# Altium footprint library PCB - IND - B82793C0513N201.PCBLIB: 1 footprints
Each footprint in its own frame and in the unit in brackets; x right, y up, seen from the top. Pads: shape width x height; smd on the part's side, far side on the other; paste and mask are expansions set on the pad; w line width, h text height; cw(c..) or ccw(c..) is an arc to the next point about the centre after c.
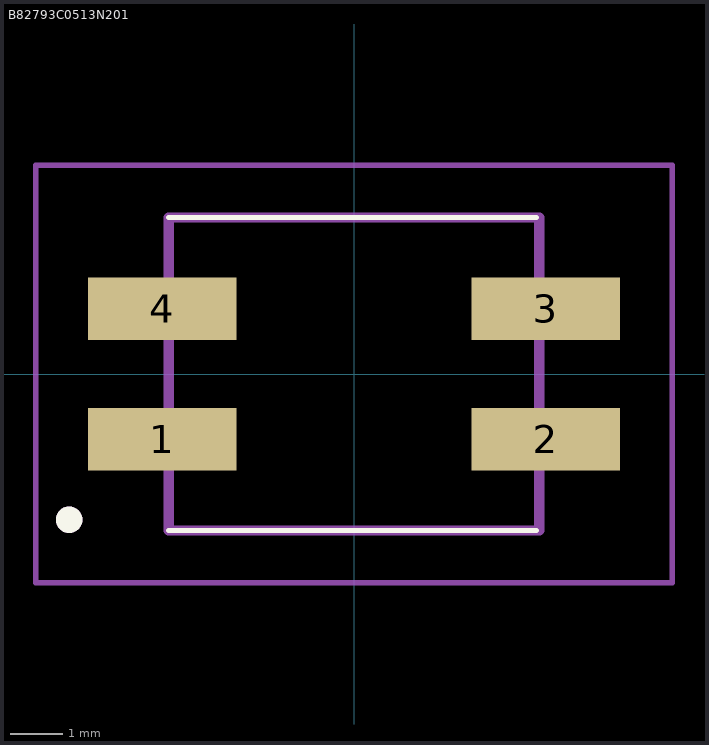
[diagram p0: the footprint, top view; thin cyan lines are the x and y axes]

## B82793C0513N201 [mm]
pads (4):
  rect 2.85x1.2 smd: 1(-3.675,-1.25) 2(3.675,-1.25) 3(3.675,1.25) 4(-3.675,1.25)
Top Overlay:
  circle w0.254: c-5.461,-2.794 r0.127
  lines w0.1: -3.55,-3 3.5,-3 -3.55,-3 ; -3.55,3 3.5,3 -3.55,3
Top Assembly:
  circle w0.254: c-5.461,-2.794 r0.127
  lines w0.2: -3.55,-3 -3.55,3 3.55,3 3.55,-3 -3.55,-3
Top Courtyard:
  lines w0.1: -6.1,-4 -6.1,4 6.1,4 6.1,-4 -6.1,-4
Top Designator:
  text ".Designator" at -6.096,5.969 h1
Top Value (Mech13):
  text ".Comment" at -6.096,4.826 h1
3D body "B82793C0513N201.stp": height 4.9, standoff 0, extent -4.98,-3 4.98,3